# EAGLE library part ICE40PINOUTHX1K2 (library rpi64)
iCE40PinoutHX1K2 edit this description Auto generated by make-symbol-device-package-bsdl.ulp Rev. 44 Source: iCE40PinoutHX1K2.txt
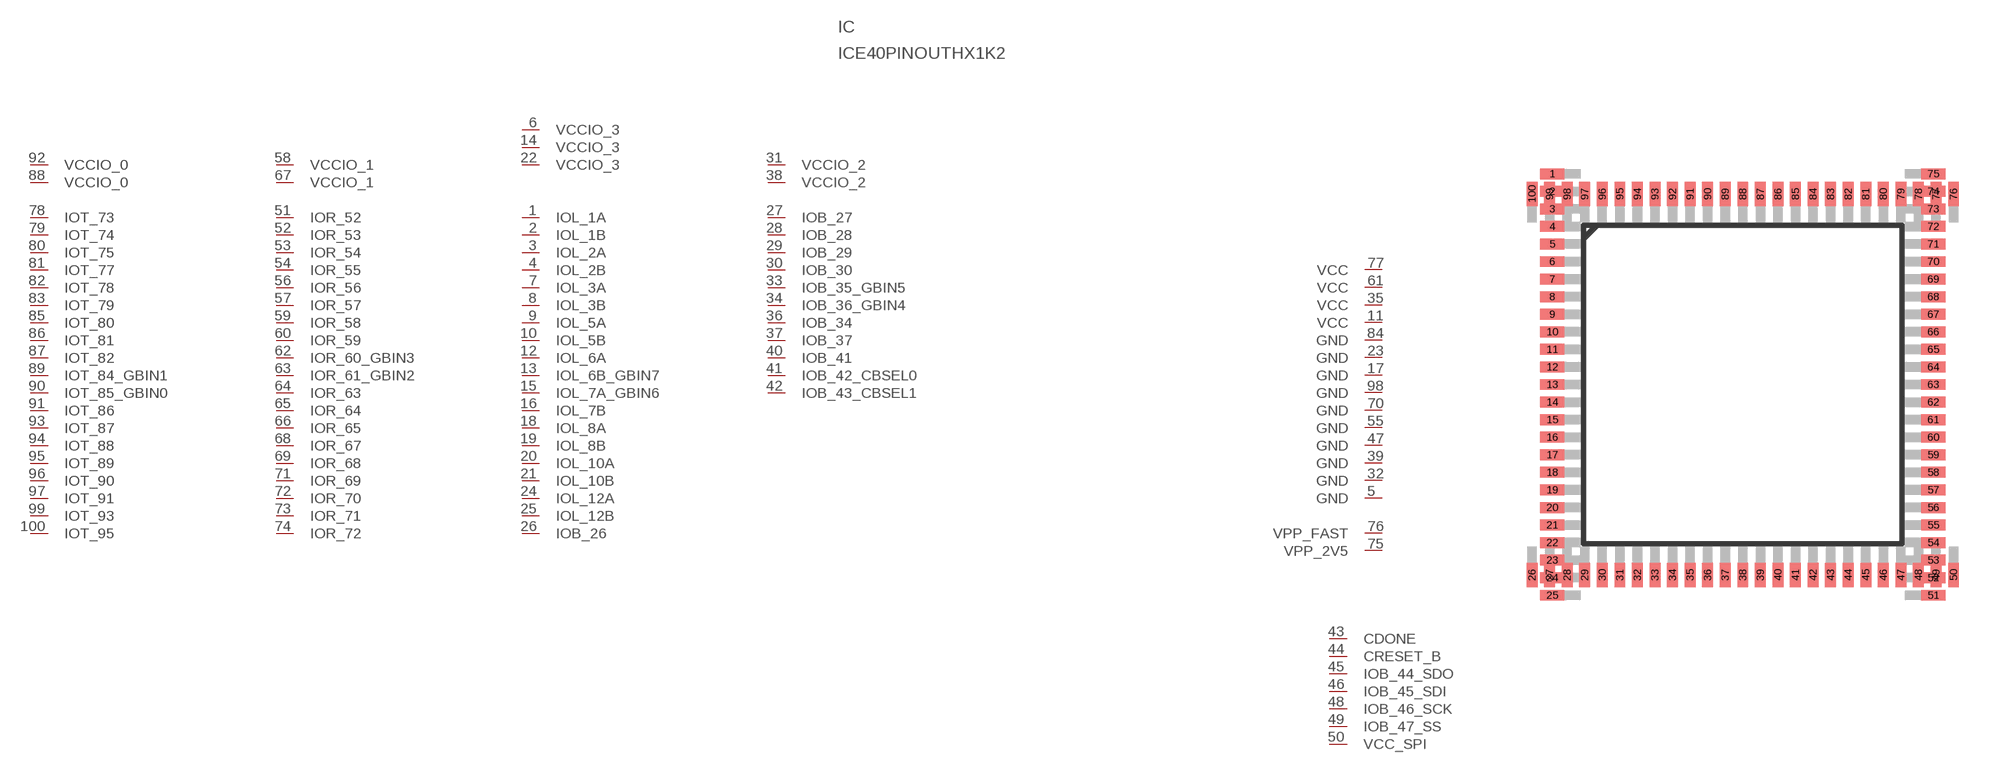
[diagram p3: symbol with the pads of TEST1; footprint TEST1]

Designator prefix IC

## ICE40PINOUTHX1K2  [TEST1]
1  IOL_1A
2  IOL_1B
3  IOL_2A
4  IOL_2B
5  GND  pwr
6  VCCIO_3  pwr
7  IOL_3A
8  IOL_3B
9  IOL_5A
10  IOL_5B
11  VCC  pwr
12  IOL_6A
13  IOL_6B_GBIN7
14  VCCIO_3  pwr
15  IOL_7A_GBIN6
16  IOL_7B
17  GND  pwr
18  IOL_8A
19  IOL_8B
20  IOL_10A
21  IOL_10B
22  VCCIO_3  pwr
23  GND  pwr
24  IOL_12A
25  IOL_12B
26  IOB_26
27  IOB_27
28  IOB_28
29  IOB_29
30  IOB_30
31  VCCIO_2  pwr
32  GND  pwr
33  IOB_35_GBIN5
34  IOB_36_GBIN4
35  VCC  pwr
36  IOB_34
37  IOB_37
38  VCCIO_2  pwr
39  GND  pwr
40  IOB_41
41  IOB_42_CBSEL0
42  IOB_43_CBSEL1
43  CDONE
44  CRESET_B
45  IOB_44_SDO
46  IOB_45_SDI
47  GND  pwr
48  IOB_46_SCK
49  IOB_47_SS
50  VCC_SPI  pwr
51  IOR_52
52  IOR_53
53  IOR_54
54  IOR_55
55  GND  pwr
56  IOR_56
57  IOR_57
58  VCCIO_1  pwr
59  IOR_58
60  IOR_59
61  VCC  pwr
62  IOR_60_GBIN3
63  IOR_61_GBIN2
64  IOR_63
65  IOR_64
66  IOR_65
67  VCCIO_1  pwr
68  IOR_67
69  IOR_68
70  GND  pwr
71  IOR_69
72  IOR_70
73  IOR_71
74  IOR_72
75  VPP_2V5  pwr
76  VPP_FAST  pwr
77  VCC  pwr
78  IOT_73
79  IOT_74
80  IOT_75
81  IOT_77
82  IOT_78
83  IOT_79
84  GND  pwr
85  IOT_80
86  IOT_81
87  IOT_82
88  VCCIO_0  pwr
89  IOT_84_GBIN1
90  IOT_85_GBIN0
91  IOT_86
92  VCCIO_0  pwr
93  IOT_87
94  IOT_88
95  IOT_89
96  IOT_90
97  IOT_91
98  GND  pwr
99  IOT_93
100  IOT_95

## Footprint TEST1 (pad centres in mm)
TEST1 Auto generated by make-symbol-device-package-bsdl.ulp Rev. 44
smd 0.9 x 0.4: 1 -7.05,7.8; 2 -7.05,7.15; 3 -7.05,6.5; 4 -7.05,5.85; 5 -7.05,5.2; 6 -7.05,4.55; 7 -7.05,3.9; 8 -7.05,3.25; 9 -7.05,2.6; 10 -7.05,1.95; 11 -7.05,1.3; 12 -7.05,0.65; 13 -7.05,0; 14 -7.05,-0.65; 15 -7.05,-1.3; 16 -7.05,-1.95; 17 -7.05,-2.6; 18 -7.05,-3.25; 19 -7.05,-3.9; 20 -7.05,-4.55; 21 -7.05,-5.2; 22 -7.05,-5.85; 23 -7.05,-6.5; 24 -7.05,-7.15; 25 -7.05,-7.8; 51 7.05,-7.8; 52 7.05,-7.15; 53 7.05,-6.5; 54 7.05,-5.85; 55 7.05,-5.2; 56 7.05,-4.55; 57 7.05,-3.9; 58 7.05,-3.25; 59 7.05,-2.6; 60 7.05,-1.95; 61 7.05,-1.3; 62 7.05,-0.65; 63 7.05,0; 64 7.05,0.65; 65 7.05,1.3; 66 7.05,1.95; 67 7.05,2.6; 68 7.05,3.25; 69 7.05,3.9; 70 7.05,4.55; 71 7.05,5.2; 72 7.05,5.85; 73 7.05,6.5; 74 7.05,7.15; 75 7.05,7.8
smd 0.4 x 0.9: 26 -7.8,-7.05; 27 -7.15,-7.05; 28 -6.5,-7.05; 29 -5.85,-7.05; 30 -5.2,-7.05; 31 -4.55,-7.05; 32 -3.9,-7.05; 33 -3.25,-7.05; 34 -2.6,-7.05; 35 -1.95,-7.05; 36 -1.3,-7.05; 37 -0.65,-7.05; 38 0,-7.05; 39 0.65,-7.05; 40 1.3,-7.05; 41 1.95,-7.05; 42 2.6,-7.05; 43 3.25,-7.05; 44 3.9,-7.05; 45 4.55,-7.05; 46 5.2,-7.05; 47 5.85,-7.05; 48 6.5,-7.05; 49 7.15,-7.05; 50 7.8,-7.05; 76 7.8,7.05; 77 7.15,7.05; 78 6.5,7.05; 79 5.85,7.05; 80 5.2,7.05; 81 4.55,7.05; 82 3.9,7.05; 83 3.25,7.05; 84 2.6,7.05; 85 1.95,7.05; 86 1.3,7.05; 87 0.65,7.05; 88 0,7.05; 89 -0.65,7.05; 90 -1.3,7.05; 91 -1.95,7.05; 92 -2.6,7.05; 93 -3.25,7.05; 94 -3.9,7.05; 95 -4.55,7.05; 96 -5.2,7.05; 97 -5.85,7.05; 98 -6.5,7.05; 99 -7.15,7.05; 100 -7.8,7.05